# Altium footprint library Diode.PcbLib: 29 footprints (part 1 of 2)
Each footprint in its own frame and in the unit in brackets; x right, y up, seen from the top. Pads: shape width x height; smd on the part's side, far side on the other; paste and mask are expansions set on the pad; w line width, h text height; cw(c..) or ccw(c..) is an arc to the next point about the centre after c.
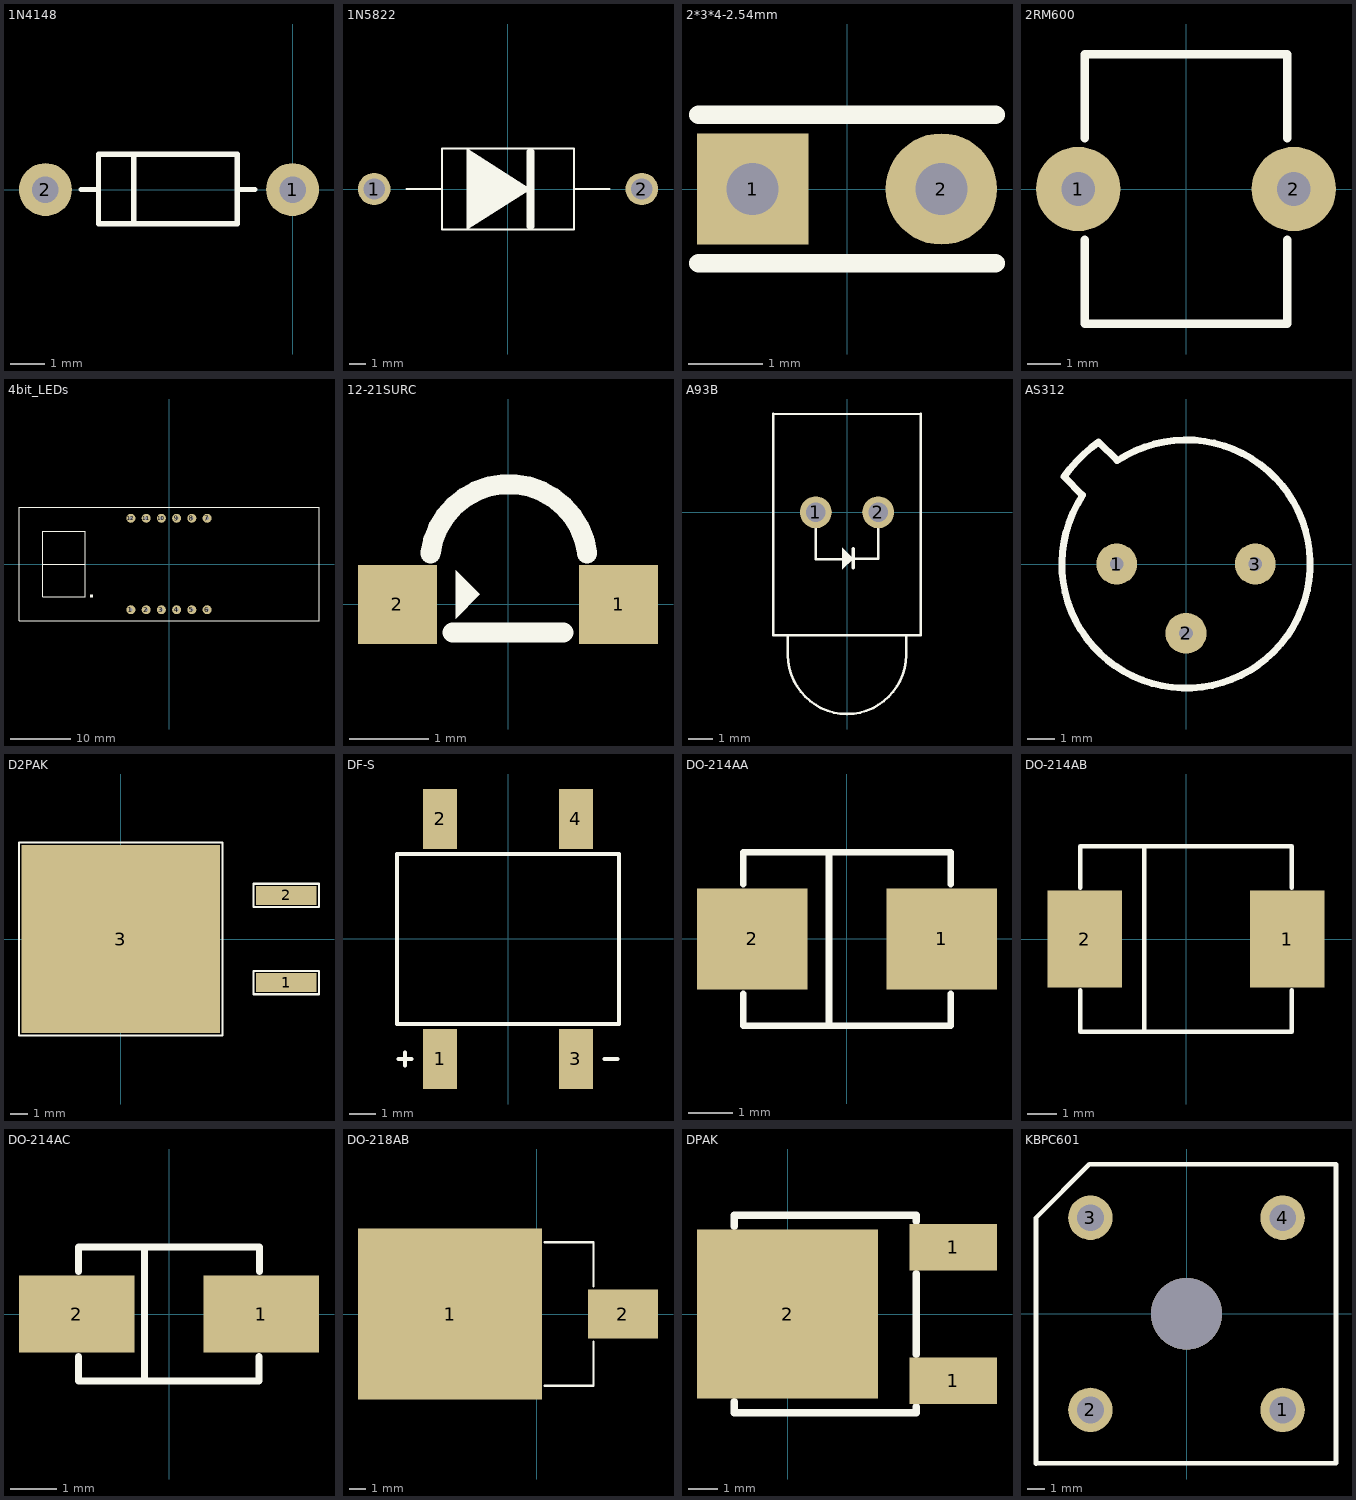
[diagram p0: the footprints below, top view; thin cyan lines are the x and y axes]

## 1N4148 [mil]
pads (2):
  round 60 hole 30: 1(0,0) 2(-280,0)
Top Overlay:
  lines w6: -239.69,0 -220,0 ; -180,-38.74 -180,40 ; -62.52,0 -42.83,0 ; -220,-38.74 -62.52,-38.74 -62.52,40 -220,40 -220,-38.74

## 1N5822 [mm]
pads (2):
  round 2 hole 1.3: 1(-8.25,0) 2(8.25,0)
Top Overlay:
  region: -2.54,2.5 -2.54,-2.5 1.392,0
  lines w0.127: -6.25,0 -4.075,0 ; 4.075,0 6.25,0 ; -4.075,0 -4.075,-2.5 4.075,-2.5 4.075,2.5 -4.075,2.5 -4.075,0
  lines w0.5: 1.397,-2.286 1.397,2.286

## 2*3*4-2.54mm [mm] "LED"
height 3
pads (2):
  rect 1.5x1.5 hole 0.7: 1(-1.27,0)
  round 1.5 hole 0.7: 2(1.27,0)
Top Overlay:
  lines w0.254: -2,-1 2,-1 ; -2,1 2,1

## 2RM600 [mm]
height 8
pads (2):
  round 2.5 hole 1: 1(-3.2,0) 2(3.2,0)
Top Overlay:
  lines w0.254: -3,-1.5 -3,-4 3,-4 3,-1.5 ; -3,1.5 -3,4 3,4 3,1.5

## 4bit_LEDs [mm] "4位共阴LED"
height 8
pads (12):
  round 1.5 hole 0.55: 1(-6.35,-7.62) 2(-3.81,-7.62) 3(-1.27,-7.62) 4(1.27,-7.62) 5(3.81,-7.62) 6(6.35,-7.62) 7(6.35,7.62) 8(3.81,7.62) 9(1.27,7.62) 10(-1.27,7.62) 11(-3.81,7.62) 12(-6.35,7.62)
Top Overlay:
  rectangle: -13.208,-5.588 -12.7,-5.08
  lines w0.203: -21,0 -14,0 ; -25,-9.5 25,-9.5 25,9.5 -25,9.5 -25,-9.5 ; -21,-5.5 -21,5.5 -14,5.5 -14,-5.5 -21,-5.5

## 12-21SURC [mm] "Chip LED with right angle lens"
height 1
pads (2):
  rect 1x1 smd: 1(1.4,0) 2(-1.4,0)
Top Overlay:
  region: -0.66,0.432 -0.66,-0.178 -0.356,0.127
  lines w0.254: -0.982,0.648 cw(c0.011,0.526) 1.003,0.648 ; -0.7,-0.356 0.7,-0.356
3D body: height 1, standoff 0, extent -0.991,0.508 1.016,1.499
3D body: height 1, standoff 0, extent -1.499,-0.508 1.499,0.508

## A93B [mm] "5mm LED单灯带座"
height 6
pads (2):
  round 1.3 hole 0.8: 1(-1.27,0) 2(1.27,0)
Top Overlay:
  region: -0.203,-1.441 -0.203,-2.318 0.254,-1.886
  lines w0.102: -2.4,-5.013 -2.4,-5.8 ccw(c0,-5.8) 2.4,-5.8 2.4,-5.012 ; -1.27,0 -1.27,-1.905 0.025,-1.905 ; 0.254,-1.886 1.276,-1.886 ; 1.27,-1.88 1.27,0 ; -3,-5 3,-5 3,4 -3,4 -3,-5
  lines w0.127: 0.254,-2.267 0.254,-1.48

## AS312 [mm] "热释电"
height 4.2
pads (3):
  round 1.5 hole 0.5: 1(-2.54,0) 2(0,-2.54) 3(2.54,0)
Top Overlay:
  lines w0.254: -4.475,3.198 cw(c0,0) -3.201,4.473 ; -4.471,3.201 -3.79,2.52 ; -3.786,2.524 ccw(c0,0) -2.524,3.786 ; -3.202,4.472 -2.52,3.79

## D2PAK [mm] "the same as the TO-263AB"
height 4.83
pads (3):
  rect 3.5x1.1 smd: 1(9.5,-2.5) 2(9.5,2.5)
  rect 11.4x10.8 smd: 3(0,0)
Top Overlay:
  lines w0.127: -5.842,-5.537 5.842,-5.537 5.842,5.537 -5.842,5.537 -5.842,-5.537 ; 7.62,-3.175 7.62,-1.829 11.379,-1.829 11.379,-3.175 7.62,-3.175 ; 7.62,1.829 7.62,3.175 11.379,3.175 11.379,1.829 7.62,1.829

## DF-S [mm] "FOR DIODES"
height 3.4
pads (4):
  rect 1.3x2.3 smd: 1(-2.6,-4.6) 2(-2.6,4.6) 3(2.6,-4.6) 4(2.6,4.6)
Top Overlay:
  lines w0.152: -4.2,-4.6 -3.7,-4.6 ; -3.95,-4.85 -3.95,-4.35 ; 3.7,-4.6 4.2,-4.6 ; -4.25,-3.25 4.25,-3.25 4.25,3.25 -4.25,3.25 -4.25,-3.25

## DO-214AA [mm] "SMB DIODES"
height 2.62
pads (2):
  rect 2.5x2.3 smd: 1(2.15,0) 2(-2.15,0)
Top Overlay:
  lines w0.152: -2.349,-1.24 -2.349,-1.968 2.349,-1.968 2.349,-1.24 ; -2.349,1.24 -2.349,1.968 2.349,1.968 2.349,1.24 ; -0.406,-1.968 -0.406,1.968

## DO-214AB [mm] "SMC DIODES"
height 2.62
pads (2):
  rect 2.5x3.27 smd: 1(3.4,0) 2(-3.4,0)
Top Overlay:
  lines w0.152: -3.556,-1.727 -3.556,-3.111 3.556,-3.111 3.556,-1.727 ; -3.556,1.727 -3.556,3.111 3.556,3.111 3.556,1.727 ; -1.4,-3.111 -1.4,3.111

## DO-214AC [mm] "SMA DIODES"
height 2.62
pads (2):
  rect 2.5x1.67 smd: 1(2,0) 2(-2,0)
Top Overlay:
  lines w0.152: -1.965,-0.92 -1.965,-1.448 1.95,-1.448 1.95,-0.92 ; -1.965,0.92 -1.965,1.448 1.965,1.448 1.965,0.92 ; -0.535,-1.448 -0.535,1.448

## DO-218AB [mm] "DIODE"
height 5
pads (2):
  rect 11.3x10.5 smd: 1(-5.3,0)
  rect 4.3x3 smd: 2(5.3,0)
Top Overlay:
  lines w0.127: 0.5,-4.4 3.5,-4.4 3.5,-1.7 ; 0.5,4.4 3.5,4.4 3.5,1.7

## DPAK [mil]
height 98.43
pads (3):
  rect 118x63 smd: 1(223,-90) 1(223,90)
  rect 244x228 smd: 2(0,0)
Top Overlay:
  lines w10: -72,-118 -72,-133 173,-133 173,-125 ; -72,118 -72,133 173,133 173,125 ; 173,-54 173,54

## KBPC601 [mm]
height 6.3
pads (4):
  round 2.5 hole 1.5: 1(5.4,-5.4) 2(-5.4,-5.4) 3(-5.4,5.4) 4(5.4,5.4)
via 0,0 diameter 4 hole 4
Top Overlay:
  lines w0.254: -8.458,-8.418 -8.458,5.4 -5.458,8.4 -5.4,8.4 8.4,8.4 8.4,-8.4 -8.4,-8.4